# EAGLE library part PLD_2X04 (library connector)
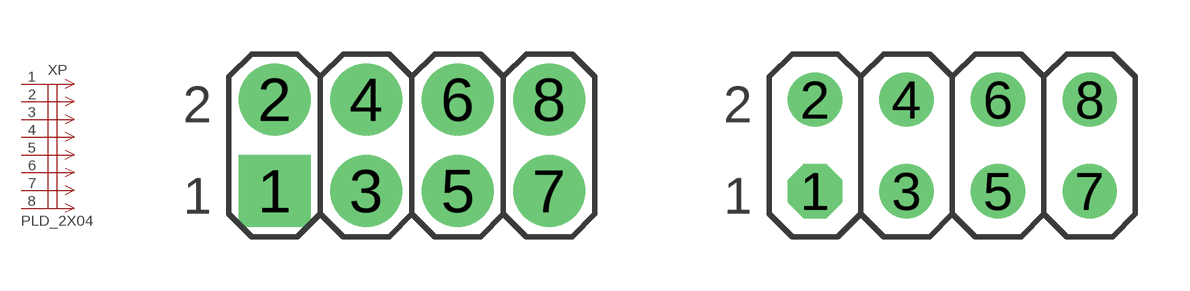
[diagram p22: symbol with the pads of PLD_2X04_LUT; footprints PLD_2X04_LUT, PLD_2X04]

Designator prefix XP

## PLD_2X04LUT  [PLD_2X04_LUT]
1  1  pas
2  2  pas
3  3  pas
4  4  pas
5  5  pas
6  6  pas
7  7  pas
8  8  pas

## PLD_2X04  [PLD_2X04]
Pads as for PLD_2X04_LUT

## Footprint PLD_2X04_LUT (pad centres in mm)
drill 1 pad 2 square: 1 0,0
drill 1 pad 2: 2 0,2.54; 3 2.54,0; 4 2.54,2.54; 5 5.08,0; 6 5.08,2.54; 7 7.62,0; 8 7.62,2.54

## Footprint PLD_2X04 (pad centres in mm)
drill 1 octagon: 1 0,0
drill 1: 2 0,2.54; 3 2.54,0; 4 2.54,2.54; 5 5.08,0; 6 5.08,2.54; 7 7.62,0; 8 7.62,2.54